# Altium footprint library C-Capacitor.PCBLIB: 9 footprints
Each footprint in its own frame and in the unit in brackets; x right, y up, seen from the top. Pads: shape width x height; smd on the part's side, far side on the other; paste and mask are expansions set on the pad; w line width, h text height; cw(c..) or ccw(c..) is an arc to the next point about the centre after c.
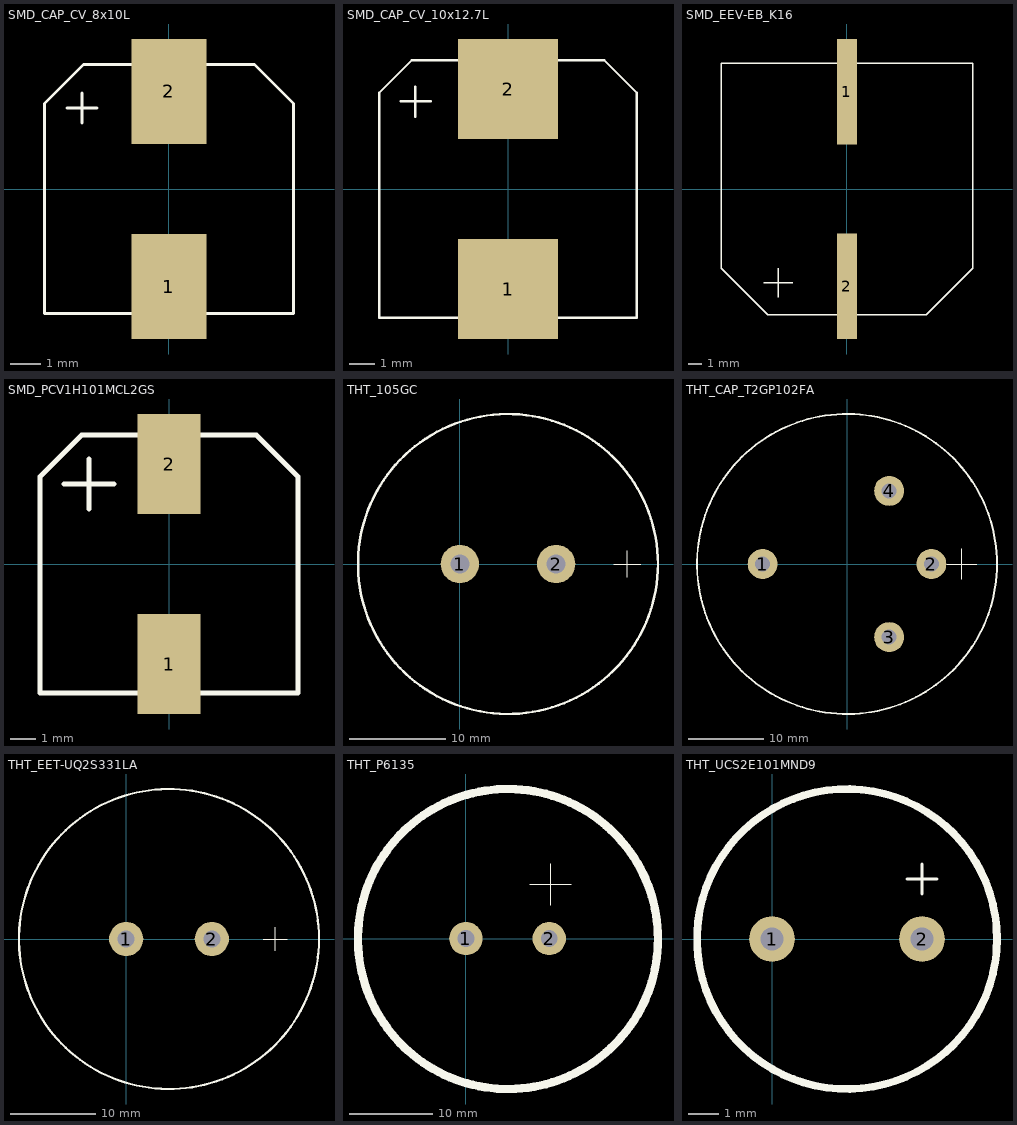
[diagram p0: the footprints below, top view; thin cyan lines are the x and y axes]

## SMD_CAP_CV_8x10L [mm]
height 10
pads (2):
  rect 2.5x3.5 smd: 1(0,-3.25) 2(0,3.25)
Top Overlay:
  lines w0.1: -3.4,2.7 -2.4,2.7 ; -2.9,2.2 -2.9,3.2 ; -4.15,-4.15 4.15,-4.15 4.15,2.85 2.85,4.15 -2.85,4.15 -4.15,2.85 -4.15,-4.15

## SMD_CAP_CV_10x12.7L [mm]
height 12.7
pads (2):
  rect 4x4 smd: 1(0,-4) 2(0,4)
Top Overlay:
  lines w0.1: -4.3,3.5 -3.1,3.5 ; -3.7,2.9 -3.7,4.1 ; -5.15,-5.15 5.15,-5.15 5.15,3.85 3.85,5.15 -3.85,5.15 -5.15,3.85 -5.15,-5.15

## SMD_EEV-EB_K16 [mm]
height 16.5
pads (2):
  rect 1.5x8 smd: 1(0,7.35) 2(0,-7.35)
Top Overlay:
  lines w0.1: -6.3,-7.1 -4.1,-7.1 ; -5.2,-8.2 -5.2,-6 ; -9.5,-6 -9.5,9.5 9.5,9.5 9.5,-6 6,-9.5 -6,-9.5 -9.5,-6

## SMD_PCV1H101MCL2GS [mm]
pads (2):
  rect 2.5x4 smd: 1(0,-4) 2(0,4)
Top Overlay:
  lines w0.2: -4.2,3.2 -2.2,3.2 ; -3.2,2.2 -3.2,4.2 ; -5.15,-5.15 5.15,-5.15 5.15,3.5 3.5,5.15 -3.5,5.15 -5.15,3.5 -5.15,-5.15

## THT_105GC [mm]
pads (2):
  round 4 hole 2: 1(0,0) 2(10,0)
Top Overlay:
  circle w0.254: c5,0 r15.6
  lines w0.1: 16,0 18.8,0 ; 17.4,-1.4 17.4,1.4

## THT_CAP_T2GP102FA [mm]
height 63
pads (4):
  round 4 hole 2: 1(-11.25,0) 2(11.25,0) 3(5.625,-9.75) 4(5.625,9.75)
Top Overlay:
  circle w0.254: c0,0 r20
  lines w0.1: 13.3,0 17.3,0 ; 15.3,-2 15.3,2

## THT_EET-UQ2S331LA [mm]
height 25
pads (2):
  round 4 hole 2: 1(0,0) 2(10,0)
Top Overlay:
  circle w0.254: c5,0 r17.5
  lines w0.1: 16,0 18.8,0 ; 17.4,-1.4 17.4,1.4

## THT_P6135 [mm]
pads (2):
  round 4 hole 2: 1(0,0) 2(10,0)
Top Overlay:
  circle w1: c5.05,-0.05 r18
  lines w0.1: 7.65,6.5 12.65,6.5 ; 10.15,4 10.15,9

## THT_UCS2E101MND9 [mil]
pads (2):
  round 60 hole 30: 1(0,0) 2(196.85,0)
Top Overlay:
  circle w10: c98.43,0 r196.85
  lines w3.94: 177.17,78.74 216.54,78.74 ; 196.85,59.06 196.85,98.43